# EAGLE library part 4606X-101-102LF (library rcbussbc)
1k Ohm +/-2% 200mW Power Per Element Bussed 5 Resistor Network/Array +/-100ppm/C 6-SIP Source: Datasheet <https://www.bourns.com/docs/Product-Datasheets/4600x.pdf>
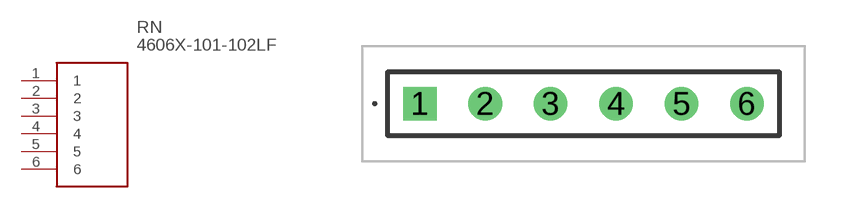
[diagram p5: symbol with the pads of 4606X101102LF; footprint 4606X101102LF]

Designator prefix RN

## 4606X-101-102LF (ARROW_PART_NUMBER: 4606X-101-102LF; ARROW_PRICE-STOCK: https://www.arrow.com/en/products/4606x-101-102lf/bourns?region=nac; DESCRIPTION: 1k Ohm +/-2% 200mW Power Per Element Bussed 5 Resistor Network/Array +/-100ppm/C 6-SIP; HEIGHT: 5.08mm; MANUFACTURER_NAME: Bourns; MANUFACTURER_PART_NUMBER: 4606X-101-102LF; MOUSER_PART_NUMBER: 652-4606X-1LF-1K; MOUSER_PRICE-STOCK: https://www.mouser.co.uk/ProductDetail/Bourns/4606X-101-102LF?qs=5DXzRwmrLHEA%2FUYO9EbHMw%3D%3D)  [4606X101102LF]
1  1
2  2
3  3
4  4
5  5
6  6

## Footprint 4606X101102LF (pad centres in mm)
4606X-101-102LF-2
drill 0.76 pad 1.303 square: 1 0,0
drill 0.76 pad 1.303: 2 2.54,0; 3 5.08,0; 4 7.62,0; 5 10.16,0; 6 12.7,0